# Altium footprint library CONNECTOR.PcbLib: 181 footprints (part 3 of 12)
Each footprint in its own frame and in the unit in brackets; x right, y up, seen from the top. Pads: shape width x height; smd on the part's side, far side on the other; paste and mask are expansions set on the pad; w line width, h text height; cw(c..) or ccw(c..) is an arc to the next point about the centre after c.
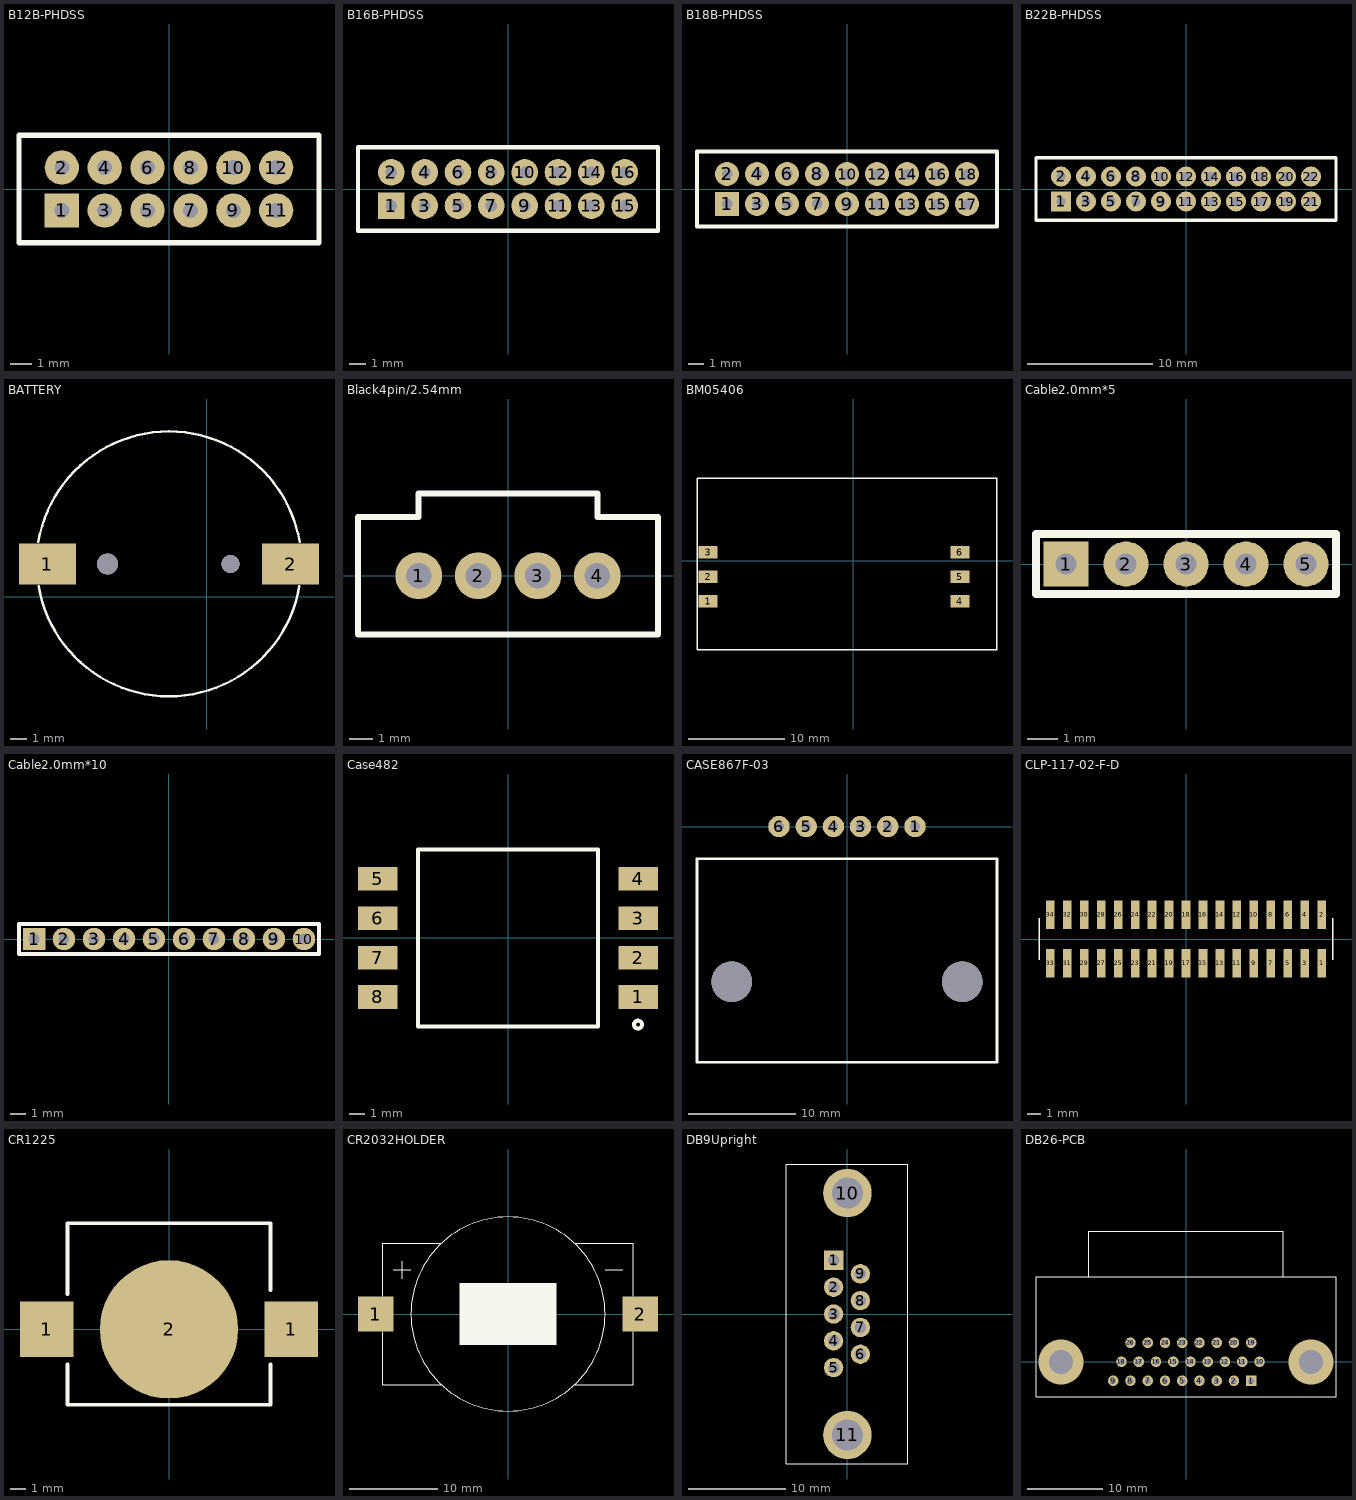
[diagram p2: the footprints below, top view; thin cyan lines are the x and y axes]

## B12B-PHDSS [mm] "JST 2.0mm插座"
height 6.5
pads (12):
  rect 1.6x1.6 hole 0.7: 1(-5,-1)
  round 1.6 hole 0.7: 2(-5,1) 3(-3,-1) 4(-3,1) 5(-1,-1) 6(-1,1) 7(1,-1) 8(1,1) 9(3,-1) 10(3,1) 11(5,-1) 12(5,1)
Top Overlay:
  lines w0.254: -7,-2.5 -7,2.5 7,2.5 7,-2.5 -7,-2.5

## B16B-PHDSS [mm] "JST 2.0mm插座"
height 6.5
pads (16):
  rect 1.6x1.6 hole 0.7: 1(-7,-1)
  round 1.6 hole 0.7: 2(-7,1) 3(-5,-1) 4(-5,1) 5(-3,-1) 6(-3,1) 7(-1,-1) 8(-1,1) 9(1,-1) 10(1,1) 11(3,-1) 12(3,1) 13(5,-1) 14(5,1) 15(7,-1) 16(7,1)
Top Overlay:
  lines w0.254: -9,-2.5 -9,2.5 9,2.5 9,-2.5 -9,-2.5

## B18B-PHDSS [mm] "JST 2.0mm插座"
height 6.5
pads (18):
  rect 1.6x1.6 hole 0.7: 1(-8,-1)
  round 1.6 hole 0.7: 2(-8,1) 3(-6,-1) 4(-6,1) 5(-4,-1) 6(-4,1) 7(-2,-1) 8(-2,1) 9(0,-1) 10(0,1) 11(2,-1) 12(2,1) 13(4,-1) 14(4,1) 15(6,-1) 16(6,1) 17(8,-1) 18(8,1)
Top Overlay:
  lines w0.254: -10,-2.5 10,-2.5 10,2.5 -10,2.5 -10,-2.5

## B22B-PHDSS [mm] "JST 2.0mm插座"
height 6.5
pads (22):
  rect 1.6x1.6 hole 0.7: 1(-10,-1)
  round 1.6 hole 0.7: 2(-10,1) 3(-8,-1) 4(-8,1) 5(-6,-1) 6(-6,1) 7(-4,-1) 8(-4,1) 9(-2,-1) 10(-2,1) 11(0,-1) 12(0,1) 13(2,-1) 14(2,1) 15(4,-1) 16(4,1) 17(6,-1) 18(6,1) 19(8,-1) 20(8,1) 21(10,-1) 22(10,1)
Top Overlay:
  lines w0.254: -12,-2.5 -12,2.5 12,2.5 12,-2.5 -12,-2.5

## BATTERY [mm]
pads (2):
  rect 3.5x2.5 smd: 1(-9.837,2.007) 2(5.163,2.007)
via 1.463,2.007 diameter 1.1 hole 1.1
via -6.137,2.007 diameter 1.3 hole 1.3
Top Overlay:
  lines w0.152: -10.393,3.379 cw(c-2.337,2.007) 5.719,3.383 ; -10.38,0.636 ccw(c-2.337,2.007) 5.707,0.636

## Black4pin/2.54mm [mm]
pads (4):
  round 2 hole 1.1: 1(-3.81,0) 2(-1.27,0) 3(1.27,0) 4(3.81,0)
Top Overlay:
  lines w0.254: -6.4,-2.5 -6.4,2.5 -3.81,2.5 -3.81,3.5 3.81,3.5 3.81,2.5 6.4,2.5 6.4,-2.5 -6.4,-2.5

## BM05406 [mm]
pads (6):
  rect 1.95x1.3 smd: 1(-15.031,-4.191) 2(-15.031,-1.651) 3(-15.031,0.889) 4(11.069,-4.191) 5(11.069,-1.651) 6(11.069,0.889)
Top Overlay:
  lines w0.152: 14.91,-9.181 14.91,8.559 ; 14.919,-9.181 -16.181,-9.181 -16.181,8.559 14.919,8.559

## Cable2.0mm*5 [mm] "2.0mm排线"
pads (5):
  rect 1.5x1.5 hole 0.7: 1(-4,0)
  round 1.5 hole 0.7: 2(-2,0) 3(0,0) 4(2,0) 5(4,0)
Top Overlay:
  lines w0.254: -5,-1 -5,1 5,1 5,-1 -5,-1

## Cable2.0mm*10 [mm] "2.0mm排线"
pads (10):
  rect 1.5x1.5 hole 0.7: 1(-9,0)
  round 1.5 hole 0.7: 2(-7,0) 3(-5,0) 4(-3,0) 5(-1,0) 6(1,0) 7(3,0) 8(5,0) 9(7,0) 10(9,0)
Top Overlay:
  lines w0.254: -10,-1 -10,1 0,1 10,1 10,-1 0,-1 -10,-1

## Case482 [mm] "MPX4250A"
height 13
pads (8):
  rect 2.54x1.52 smd: 1(8.4,-3.81) 2(8.4,-1.27) 3(8.4,1.27) 4(8.4,3.81) 5(-8.4,3.81) 6(-8.4,1.27) 7(-8.4,-1.27) 8(-8.4,-3.81)
Top Overlay:
  circle w0.254: c8.382,-5.588 r0.254
  lines w0.254: -5.8,-5.7 5.8,-5.7 5.8,5.7 -5.8,5.7 -5.8,-5.7

## CASE867F-03 [mm] "MPX5700"
height 16
pads (6):
  round 2 hole 0.9: 1(6.35,0) 2(3.81,0) 3(1.27,0) 4(-1.27,0) 5(-3.81,0) 6(-6.35,0)
via -10.75,-14.5 diameter 3.8 hole 3.8
via 10.75,-14.5 diameter 3.8 hole 3.8
Top Overlay:
  lines w0.254: -14,-22 14,-22 14,-3 -14,-3 -14,-22

## CLP-117-02-F-D [mm] "1.27mm间距贴片座2×17"
height 4.6
pads (34):
  rect 0.65x2.15 smd: 1(10.16,-1.825) 2(10.16,1.825) 3(8.89,-1.825) 4(8.89,1.825) 5(7.62,-1.825) 6(7.62,1.825) 7(6.35,-1.825) 8(6.35,1.825) 9(5.08,-1.825) 10(5.08,1.825) 11(3.81,-1.825) 12(3.81,1.825) 13(2.54,-1.825) 14(2.54,1.825) 15(1.27,-1.825) 16(1.27,1.825) 17(0,-1.825) 18(0,1.825) 19(-1.27,-1.825) 20(-1.27,1.825) 21(-2.54,-1.825) 22(-2.54,1.825) 23(-3.81,-1.825) 24(-3.81,1.825) 25(-5.08,-1.825) 26(-5.08,1.825) 27(-6.35,-1.825) 28(-6.35,1.825) 29(-7.62,-1.825) 30(-7.62,1.825) 31(-8.89,-1.825) 32(-8.89,1.825) 33(-10.16,-1.825) 34(-10.16,1.825)
Top Overlay:
  lines w0.102: -11,-1.55 -11,1.55 ; 11,-1.55 11,1.55

## CR1225 [mm] "SMD BATTERY RETAINER"
height 3.96
pads (3):
  rect 3.5x3.6 smd: 1(-7.95,0) 1(7.95,0)
  round 9 smd: 2(0,0)
Top Overlay:
  lines w0.254: -6.6,-2.29 -6.6,-4.9 6.6,-4.9 6.6,-2.29 ; -6.6,2.29 -6.6,6.9 6.6,6.9 6.6,2.544

## CR2032HOLDER [mm] "HOLDER FOR CR2032"
height 5.5
pads (2):
  rect 4x4 smd: 1(-15,0) 2(15,0)
Top Overlay:
  circle w0.127: c0,0 r11
  rectangle: -5.5,-3.5 5.5,3.5
  lines w0.127: -14.2,-2 -14.2,-8 -7.569,-8 ; -14.2,2 -14.2,8 -7.544,8 ; -13,5 -11,5 ; -12,4 -12,6 ; 7.544,-8 14.2,-8 14.2,-2 ; 7.569,8 14.2,8 14.2,2 ; 11,5 13,5

## DB9Upright [mm] "For upright DB9 connector"
height 6
pads (11):
  rect 2x2 hole 1.2: 1(-1.38,5.54)
  round 2 hole 1.2: 2(-1.38,2.77) 3(-1.38,0) 4(-1.38,-2.77) 5(-1.38,-5.54) 6(1.38,-4.16) 7(1.38,-1.39) 8(1.38,1.38) 9(1.38,4.15)
  round 5 hole 3.2: 10(0.04,12.5) 11(0.04,-12.5)
Top Overlay:
  lines w0.127: -6.3,-15.5 -6.3,15.5 6.3,15.5 6.3,-15.5 -6.3,-15.5

## DB26-PCB [mm] "DB26,male,PCB,90degree"
height 12.5
pads (26):
  rect 1.4x1.4 hole 0.8: 1(8.7,-2.54)
  round 1.4 hole 0.8: 2(6.4,-2.54) 3(4.1,-2.54) 4(1.8,-2.54) 5(-0.5,-2.54) 6(-2.8,-2.54) 7(-5.1,-2.54) 8(-7.4,-2.54) 9(-9.7,-2.54) 10(9.8,0) 11(7.5,0) 12(5.2,0) 13(2.9,0) 14(0.6,0) 15(-1.7,0) 16(-4,0) 17(-6.3,0) 18(-8.6,0) 19(8.7,2.54) 20(6.4,2.54) 21(4.1,2.54) 22(1.8,2.54) 23(-0.5,2.54) 24(-2.8,2.54) 25(-5.1,2.54) 26(-7.4,2.54)
via 16.65,0 diameter 6 hole 3.2
via -16.65,0 diameter 6 hole 3.2
Top Overlay:
  lines w0.102: -13,11.391 -13,17.37 13,17.37 13,11.4 ; -20,-4.63 -20,11.37 20,11.37 20,-4.63 -20,-4.63